# Altium footprint library Library.PcbLib: 33 footprints (part 1 of 3)
Each footprint in its own frame and in the unit in brackets; x right, y up, seen from the top. Pads: shape width x height; smd on the part's side, far side on the other; paste and mask are expansions set on the pad; w line width, h text height; cw(c..) or ccw(c..) is an arc to the next point about the centre after c.
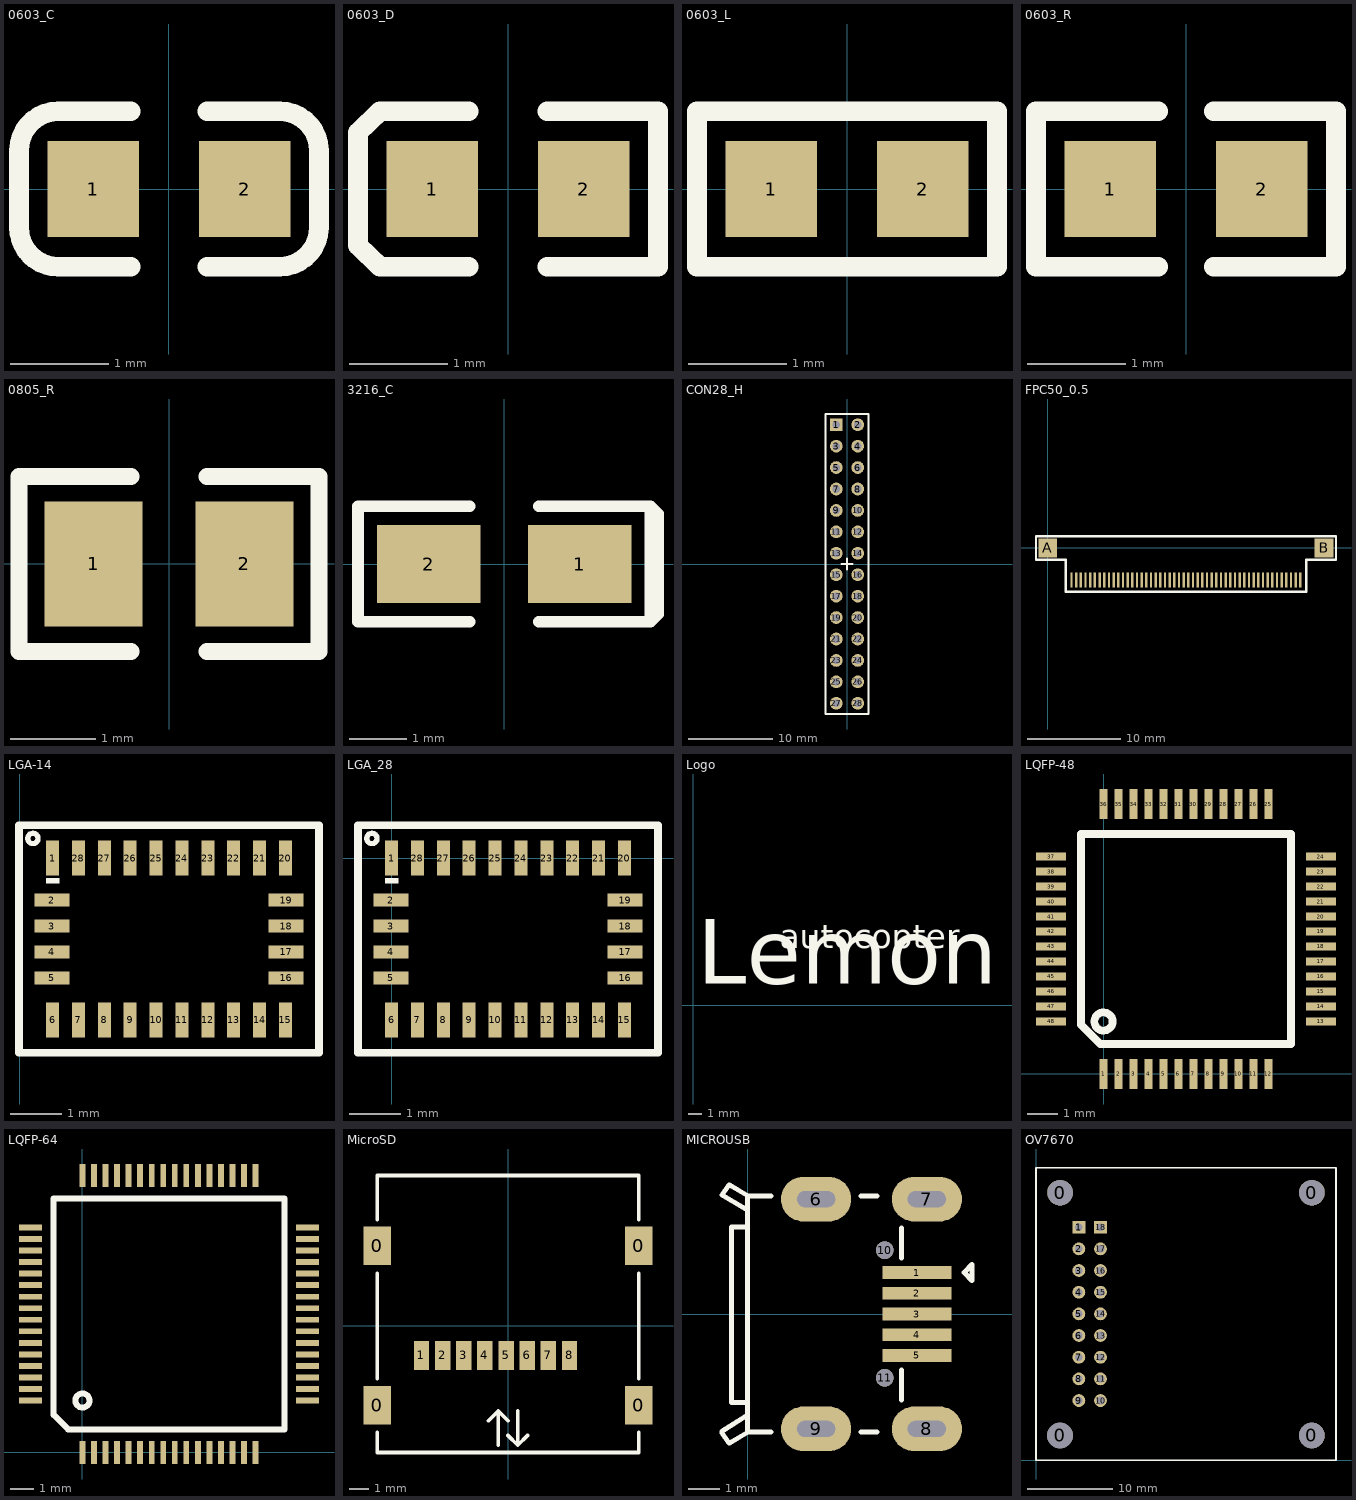
[diagram p0: the footprints below, top view; thin cyan lines are the x and y axes]

## 0603_C [mm] "电容_0603"
pads (2):
  rect 0.93x0.98 smd: 1(-0.77,0) 2(0.77,0)
Top Overlay:
  lines w0.2: -0.389,-0.79 -1.124,-0.79 cw(c-1.124,-0.39) -1.524,-0.39 -1.524,0.39 cw(c-1.124,0.39) -1.124,0.79 -0.389,0.79 ; 0.389,-0.79 1.124,-0.79 ccw(c1.124,-0.39) 1.524,-0.39 1.524,0.39 ccw(c1.124,0.39) 1.124,0.79 0.389,0.79
3D body "User Library-0603 SMD Capacitor.STEP": height 0.3, standoff 0, extent -0.8,-0.4 0.8,0.4

## 0603_D [mm] "LED_0603"
pads (2):
  rect 0.93x0.98 smd: 1(-0.77,0) 2(0.77,0)
Top Overlay:
  lines w0.2: -0.4,-0.79 -1.3,-0.79 -1.524,-0.574 -1.524,0.574 -1.3,0.79 -0.4,0.79 ; 0.4,-0.79 1.524,-0.79 1.524,0.79 0.4,0.79
3D body "User Library-LED_0603_R.STEP": height 0.6, standoff 0, extent -0.8,-0.4 0.8,0.4

## 0603_L [mm] "电感_0603"
pads (2):
  rect 0.93x0.98 smd: 1(-0.77,0) 2(0.77,0)
Top Overlay:
  lines w0.2: -1.524,-0.79 1.524,-0.79 1.524,0.79 -1.524,0.79 -1.524,-0.79
3D body "L0603.STEP": height 0.46, standoff -0.01, extent -0.825,-0.412 0.825,0.413

## 0603_R [mm] "电阻_0603"
pads (2):
  rect 0.93x0.98 smd: 1(-0.77,0) 2(0.77,0)
Top Overlay:
  lines w0.2: -0.282,-0.79 -1.524,-0.79 -1.524,0.79 -0.282,0.79 ; 0.282,-0.79 1.524,-0.79 1.524,0.79 0.282,0.79
3D body "User Library-RES_1609-0603.STEP": height 0.56, standoff 0, extent -0.85,-0.4 0.85,0.4

## 0805_R [mm] "电阻_0805"
pads (2):
  rect 1.16x1.47 smd: 1(-0.89,0) 2(0.89,0)
Top Overlay:
  lines w0.2: -0.45,-1.035 -1.77,-1.035 -1.77,1.035 -0.45,1.035 ; 0.45,-1.035 1.77,-1.035 1.77,1.035 0.45,1.035
3D body "User Library-R_0805.STEP": height 0.49, standoff -0.01, extent -0.997,-0.625 1.003,0.625

## 3216_C [mm] "钽电容_3216"
pads (2):
  rect 1.8x1.35 smd: 1(1.31,0) 2(-1.31,0)
Top Overlay:
  lines w0.2: -0.6,-1.002 -2.537,-1.002 -2.537,1.002 -0.6,1.002 ; 0.6,-1.002 2.537,-1.002 ; 0.6,1.002 2.537,1.002 ; 2.537,-1.002 2.667,-0.872 2.667,0.872 2.537,1.002 ; 2.537,-1.002 2.537,1.002
3D body "User Library-AVX_ACASE.STEP": height 1.71, standoff 0, extent -1.7,-0.84 1.7,0.84

## CON28_H [mm]
pads (28):
  rect 1.5x1.5 hole 0.9: 1(-1.27,16.51)
  round 1.5 hole 0.9: 2(1.27,16.51) 3(-1.27,13.97) 4(1.27,13.97) 5(-1.27,11.43) 6(1.27,11.43) 7(-1.27,8.89) 8(1.27,8.89) 9(-1.27,6.35) 10(1.27,6.35) 11(-1.27,3.81) 12(1.27,3.81) 13(-1.27,1.27) 14(1.27,1.27) 15(-1.27,-1.27) 16(1.27,-1.27) 17(-1.27,-3.81) 18(1.27,-3.81) 19(-1.27,-6.35) 20(1.27,-6.35) 21(-1.27,-8.89) 22(1.27,-8.89) 23(-1.27,-11.43) 24(1.27,-11.43) 25(-1.27,-13.97) 26(1.27,-13.97) 27(-1.27,-16.51) 28(1.27,-16.51)
Top Overlay:
  lines w0.2: -2.54,-17.78 2.54,-17.78 2.54,17.78 -2.54,17.78 -2.54,-17.78
  lines w0.254: -0.635,0 0,0 ; 0,-0.635 0,0 ; 0,0.635 0,0 ; 0.635,0 0,0

## FPC50_0.5 [mm] "4.0寸TFT屏幕"
pads (52):
  rect 0.25x1.6 smd: 1(2.54,-3.451) 2(3.04,-3.451) 3(3.54,-3.451) 4(4.04,-3.451) 5(4.54,-3.451) 6(5.04,-3.451) 7(5.54,-3.451) 8(6.04,-3.451) 9(6.54,-3.451) 10(7.04,-3.451) 11(7.54,-3.451) 12(8.04,-3.451) 13(8.54,-3.451) 14(9.04,-3.451) 15(9.54,-3.451) 16(10.04,-3.451) 17(10.54,-3.451) 18(11.04,-3.451) 19(11.54,-3.451) 20(12.04,-3.451) 21(12.54,-3.451) 22(13.04,-3.451) 23(13.54,-3.451) 24(14.04,-3.451) 25(14.54,-3.451) 26(15.04,-3.451) 27(15.54,-3.451) 28(16.04,-3.451) 29(16.54,-3.451) 30(17.04,-3.451) 31(17.54,-3.451) 32(18.04,-3.451) 33(18.54,-3.451) 34(19.04,-3.451) 35(19.54,-3.451) 36(20.04,-3.451) 37(20.54,-3.451) 38(21.04,-3.451) 39(21.54,-3.451) 40(22.04,-3.451) 41(22.54,-3.451) 42(23.04,-3.451) 43(23.54,-3.451) 44(24.04,-3.451) 45(24.54,-3.451) 46(25.04,-3.451) 47(25.54,-3.451) 48(26.04,-3.451) 49(26.54,-3.451) 50(27.04,-3.451)
  rect 2x2 smd: A(0,0) B(29.58,0)
Top Overlay:
  lines w0.254: -1.27,-1.27 -1.27,1.27 30.861,1.27 30.861,-1.27 27.686,-1.27 27.686,-4.699 1.905,-4.699 1.905,-1.27 -1.27,-1.27

## LGA-14 [mm]
pads (28):
  rect 0.25x0.675 smd mask+0.075: 1(0.635,7.747) 6(0.635,4.622) 7(1.135,4.622) 8(1.635,4.622) 9(2.135,4.622) 10(2.635,4.622) 11(3.135,4.622) 12(3.635,4.622) 13(4.135,4.622) 14(4.635,4.622) 15(5.135,4.622) 20(5.135,7.747) 21(4.635,7.747) 22(4.135,7.747) 23(3.635,7.747) 24(3.135,7.747) 25(2.635,7.747) 26(2.135,7.747) 27(1.635,7.747) 28(1.135,7.747)
  rect 0.675x0.25 smd mask+0.075: 2(0.623,6.935) 3(0.623,6.435) 4(0.623,5.935) 5(0.623,5.435) 16(5.148,5.435) 17(5.148,5.935) 18(5.148,6.435) 19(5.148,6.935)
Top Overlay:
  circle w0.1: c0.254,8.128 r0.1
  region: 0.51,7.26 0.76,7.26 0.76,7.36 0.51,7.36
  lines w0.15: -0.015,3.985 5.785,3.985 5.785,8.385 -0.015,8.385 -0.015,3.985
3D body: height 0.13, standoff 0, extent 0.51,7.51 0.76,7.985
3D body: height 0.13, standoff 0, extent 1.01,7.51 1.26,7.985
3D body: height 0.13, standoff 0, extent 1.51,7.51 1.76,7.985
3D body: height 0.13, standoff 0, extent 2.01,7.51 2.26,7.985
3D body: height 0.13, standoff 0, extent 2.51,7.51 2.76,7.985
3D body: height 0.13, standoff 0, extent 3.01,7.51 3.26,7.985
3D body: height 0.13, standoff 0, extent 3.51,7.51 3.76,7.985
3D body: height 0.13, standoff 0, extent 4.01,7.51 4.26,7.985
3D body: height 0.13, standoff 0, extent 4.51,7.51 4.76,7.985
3D body: height 0.13, standoff 0, extent 5.01,7.51 5.26,7.985
3D body: height 0.13, standoff 0, extent 4.91,6.81 5.385,7.06
3D body: height 0.13, standoff 0, extent 4.91,6.31 5.385,6.56
3D body: height 0.13, standoff 0, extent 4.91,5.81 5.385,6.06
3D body: height 0.13, standoff 0, extent 4.91,5.31 5.385,5.56
3D body: height 0.13, standoff 0, extent 0.385,5.31 0.86,5.56
3D body: height 0.13, standoff 0, extent 0.385,5.81 0.86,6.06
3D body: height 0.13, standoff 0, extent 0.385,6.31 0.86,6.56
3D body: height 0.13, standoff 0, extent 0.385,6.81 0.86,7.06
3D body: height 0.13, standoff 0, extent 5.01,4.385 5.26,4.86
3D body: height 0.13, standoff 0, extent 4.51,4.385 4.76,4.86
3D body: height 0.13, standoff 0, extent 4.01,4.385 4.26,4.86
3D body: height 0.13, standoff 0, extent 3.51,4.385 3.76,4.86
3D body: height 0.13, standoff 0, extent 3.01,4.385 3.26,4.86
3D body: height 0.13, standoff 0, extent 2.51,4.385 2.76,4.86
3D body: height 0.13, standoff 0, extent 2.01,4.385 2.26,4.86
3D body: height 0.13, standoff 0, extent 1.51,4.385 1.76,4.86
3D body: height 0.13, standoff 0, extent 1.01,4.385 1.26,4.86
3D body: height 0.13, standoff 0, extent 0.51,4.385 0.76,4.86

## LGA_28 [mm] "BNO055"
pads (28):
  rect 0.25x0.675 smd mask+0.075: 1(0,0) 6(0,-3.125) 7(0.5,-3.125) 8(1,-3.125) 9(1.5,-3.125) 10(2,-3.125) 11(2.5,-3.125) 12(3,-3.125) 13(3.5,-3.125) 14(4,-3.125) 15(4.5,-3.125) 20(4.5,0) 21(4,0) 22(3.5,0) 23(3,0) 24(2.5,0) 25(2,0) 26(1.5,0) 27(1,0) 28(0.5,0)
  rect 0.675x0.25 smd mask+0.075: 2(-0.012,-0.812) 3(-0.012,-1.312) 4(-0.012,-1.812) 5(-0.012,-2.312) 16(4.513,-2.312) 17(4.513,-1.812) 18(4.513,-1.312) 19(4.513,-0.812)
Top Overlay:
  circle w0.1: c-0.381,0.381 r0.1
  region: -0.125,-0.487 0.125,-0.487 0.125,-0.387 -0.125,-0.387
  lines w0.15: -0.65,-3.762 -0.65,0.638 5.15,0.638 5.15,-3.762 -0.65,-3.762
3D body: height 0.13, standoff 0, extent -0.125,-3.362 0.125,-2.887
3D body: height 0.13, standoff 0, extent 0.375,-3.362 0.625,-2.887
3D body: height 0.13, standoff 0, extent 0.875,-3.362 1.125,-2.887
3D body: height 0.13, standoff 0, extent 1.375,-3.362 1.625,-2.887
3D body: height 0.13, standoff 0, extent 1.875,-3.362 2.125,-2.887
3D body: height 0.13, standoff 0, extent 2.375,-3.362 2.625,-2.887
3D body: height 0.13, standoff 0, extent 2.875,-3.362 3.125,-2.887
3D body: height 0.13, standoff 0, extent 3.375,-3.362 3.625,-2.887
3D body: height 0.13, standoff 0, extent 3.875,-3.362 4.125,-2.887
3D body: height 0.13, standoff 0, extent 4.375,-3.362 4.625,-2.887
3D body: height 0.13, standoff 0, extent -0.25,-0.937 0.225,-0.687
3D body: height 0.13, standoff 0, extent -0.25,-1.437 0.225,-1.187
3D body: height 0.13, standoff 0, extent -0.25,-1.937 0.225,-1.687
3D body: height 0.13, standoff 0, extent -0.25,-2.437 0.225,-2.187
3D body: height 0.13, standoff 0, extent 4.275,-2.437 4.75,-2.187
3D body: height 0.13, standoff 0, extent 4.275,-1.937 4.75,-1.687
3D body: height 0.13, standoff 0, extent 4.275,-1.437 4.75,-1.187
3D body: height 0.13, standoff 0, extent 4.275,-0.937 4.75,-0.687
3D body: height 0.13, standoff 0, extent 4.375,-0.237 4.625,0.238
3D body: height 0.13, standoff 0, extent 3.875,-0.237 4.125,0.238
3D body: height 0.13, standoff 0, extent 3.375,-0.237 3.625,0.238
3D body: height 0.13, standoff 0, extent 2.875,-0.237 3.125,0.238
3D body: height 0.13, standoff 0, extent 2.375,-0.237 2.625,0.238
3D body: height 0.13, standoff 0, extent 1.875,-0.237 2.125,0.238
3D body: height 0.13, standoff 0, extent 1.375,-0.237 1.625,0.238
3D body: height 0.13, standoff 0, extent 0.875,-0.237 1.125,0.238
3D body: height 0.13, standoff 0, extent 0.375,-0.237 0.625,0.238
3D body: height 0.13, standoff 0, extent -0.125,-0.237 0.125,0.238
3D body: height 1.18, standoff 0.1, extent -0.35,-3.462 4.85,0.338

## Logo [mm]
Top Overlay:
  text "Lemon" at 0.254,0 h8
  text "autocopter" at 6.223,3.556 h3

## LQFP-48 [mm] "STM32F103C8T6"
pads (48):
  rect 0.254x1 smd: 1(0,0) 2(0.5,0) 3(1,0) 4(1.5,0) 5(2,0) 6(2.5,0) 7(3,0) 8(3.5,0) 9(4,0) 10(4.5,0) 11(5,0) 12(5.5,0) 25(5.5,9) 26(5,9) 27(4.5,9) 28(4,9) 29(3.5,9) 30(3,9) 31(2.5,9) 32(2,9) 33(1.5,9) 34(1,9) 35(0.5,9) 36(0,9)
  rect 1x0.254 smd: 13(7.25,1.75) 14(7.25,2.25) 15(7.25,2.75) 16(7.25,3.25) 17(7.25,3.75) 18(7.25,4.25) 19(7.25,4.75) 20(7.25,5.25) 21(7.25,5.75) 22(7.25,6.25) 23(7.25,6.75) 24(7.25,7.25) 37(-1.75,7.25) 38(-1.75,6.75) 39(-1.75,6.25) 40(-1.75,5.75) 41(-1.75,5.25) 42(-1.75,4.75) 43(-1.75,4.25) 44(-1.75,3.75) 45(-1.75,3.25) 46(-1.75,2.75) 47(-1.75,2.25) 48(-1.75,1.75)
Top Overlay:
  circle w0.254: c0,1.75 r0.305
  lines w0.254: -0.75,1.639 -0.111,1 6.25,1 6.25,8 -0.75,8 -0.75,1.639
3D body: height 1, standoff 0, extent -0.75,1 6.25,8

## LQFP-64 [mm] "STM32F405RGT6"
pads (64):
  rect 1x0.254 smd: 1(-2.25,2.25) 1(9.75,2.25) 2(-2.25,2.75) 2(9.75,2.75) 3(-2.25,3.25) 3(9.75,3.25) 4(-2.25,3.75) 4(9.75,3.75) 5(-2.25,4.25) 5(9.75,4.25) 6(-2.25,4.75) 6(9.75,4.75) 7(-2.25,5.25) 7(9.75,5.25) 8(-2.25,5.75) 8(9.75,5.75) 9(-2.25,6.25) 9(9.75,6.25) 10(-2.25,6.75) 10(9.75,6.75) 11(-2.25,7.25) 11(9.75,7.25) 12(-2.25,7.75) 12(9.75,7.75) 13(-2.25,8.25) 13(9.75,8.25) 14(-2.25,8.75) 14(9.75,8.75) 15(-2.25,9.25) 15(9.75,9.25) 16(-2.25,9.75) 16(9.75,9.75)
  rect 0.254x1 smd: 1(0,0) 1(0,12) 2(0.5,0) 2(0.5,12) 3(1,0) 3(1,12) 4(1.5,0) 4(1.5,12) 5(2,0) 5(2,12) 6(2.5,0) 6(2.5,12) 7(3,0) 7(3,12) 8(3.5,0) 8(3.5,12) 9(4,0) 9(4,12) 10(4.5,0) 10(4.5,12) 11(5,0) 11(5,12) 12(5.5,0) 12(5.5,12) 13(6,0) 13(6,12) 14(6.5,0) 14(6.5,12) 15(7,0) 15(7,12) 16(7.5,0) 16(7.5,12)
Top Overlay:
  circle w0.254: c0,2.25 r0.305
  lines w0.254: -1.25,1.631 -1.25,11 8.75,11 8.75,1 -0.619,1 -1.25,1.631
3D body: height 1, standoff 0, extent -1.25,1 8.75,11

## MicroSD [mm] "TF"
pads (12):
  rect 1.45x2 smd: 0(-6.8,-4.15) 0(-6.8,4.15) 0(6.8,-4.15) 0(6.8,4.15)
  rect 0.8x1.5 smd: 1(-4.5,-1.55) 2(-3.4,-1.55) 3(-2.3,-1.55) 4(-1.2,-1.55) 5(-0.1,-1.55) 6(1,-1.55) 7(2.1,-1.55) 8(3.2,-1.55)
Top Overlay:
  lines w0.2: -6.8,-5.547 -6.8,-6.6 6.8,-6.6 6.8,-5.558 ; -6.8,-2.753 -6.8,2.708 ; -6.8,5.502 -6.8,7.8 6.8,7.8 6.8,5.513 ; -1.016,-4.953 -0.508,-4.445 ; -0.508,-6.223 -0.508,-4.445 ; 0,-5.715 0.508,-6.223 ; 0,-4.953 -0.508,-4.445 ; 0.508,-4.445 0.508,-6.223 ; 1.016,-5.715 0.508,-6.223 ; 6.8,-2.753 6.8,2.708

## MICROUSB [mm] "MicroUSB"
pads (11):
  rect 2.15x0.4 smd: 1(5.31,1.3) 2(5.31,0.65) 3(5.31,0) 4(5.31,-0.65) 5(5.31,-1.3)
  oval 2.2x1.4 hole 0.5 slot 1.2 at 0 deg: 6(2.15,3.6) 7(5.62,3.6) 8(5.62,-3.6) 9(2.15,-3.6)
  round 0.55 hole 0.55 unplated: 10(4.3,2) 11(4.3,-2)
Top Overlay:
  lines w0.152: -0.8,-3.725 -0.6,-4.025 ; -0.8,-3.675 -0.05,-3.197 ; -0.6,4.025 -0.8,3.725 -0.075,3.3 ; -0.575,-4.05 0.025,-3.7 0.745,-3.7 ; -0.575,4.05 0.025,3.7 0.745,3.7 ; 0,-3.7 0,3.7 ; 0,-2.775 -0.5,-2.775 -0.5,2.725 0,2.725 ; 3.556,-3.7 4.064,-3.7 ; 3.556,3.7 4.064,3.7 ; 4.825,-2.7 4.825,-1.75 ; 4.825,1.75 4.825,2.7 ; 6.785,1.3 7.035,1.55 7.035,1.05 6.785,1.3

## OV7670 [mm]
pads (22):
  round 3 hole 3: 0(2.815,2.91) 0(2.819,31.369) 0(32.334,2.91) 0(32.339,31.369)
  rect 1.5x1.5 hole 0.9: 1(5.024,27.318) 18(7.564,27.318)
  round 1.5 hole 0.9: 2(5.024,24.778) 3(5.024,22.238) 4(5.024,19.698) 5(5.024,17.158) 6(5.024,14.618) 7(5.024,12.078) 8(5.024,9.538) 9(5.024,6.998) 10(7.564,6.998) 11(7.564,9.538) 12(7.564,12.078) 13(7.564,14.618) 14(7.564,17.158) 15(7.564,19.698) 16(7.564,22.238) 17(7.564,24.778)
Top Overlay:
  lines w0.2: 0,0 35.16,0 35.16,34.29 0,34.29 0,0